# Altium schematic symbol library JFET_N_DSG.SchLib: 1 symbol
Pins are listed as number, name and electrical type; pins without a type are passive.

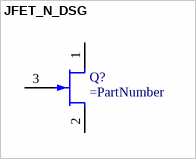
[diagram p0: symbol JFET_N_DSG]

## JFET_N_DSG
designator Q?
JFET N-Channel
pins: 1 D, 2 S, 3 G